# EAGLE library part 12401610E4#2A (library power_module)
Usb Type-c, Ra Rcpt, Pcb Mount,
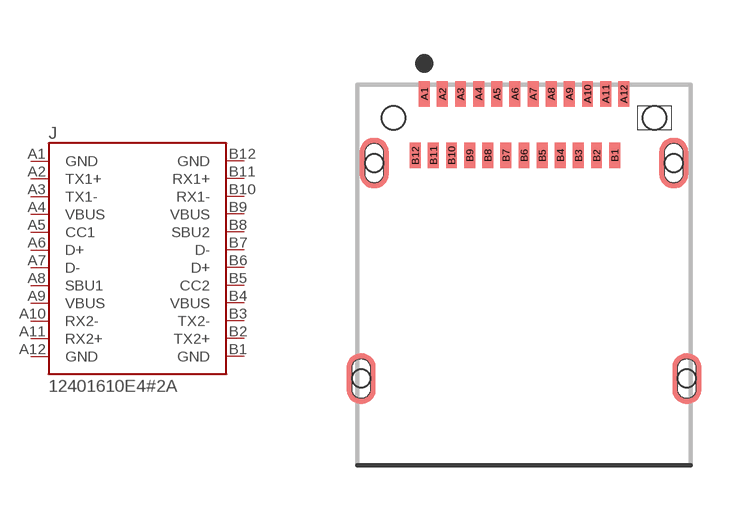
[diagram p1: symbol with the pads of AMPHENOL_12401610E4#2A; footprint AMPHENOL_12401610E4#2A]

Designator prefix J

## 12401610E4#2A (DESCRIPTION: USB TYPE-C, RA RCPT, PCB MOUNT,; DIGI-KEY_PART_NUMBER: 12401610E4#2ACT-ND; DIGI-KEY_PURCHASE_URL: https://www.digikey.com/product-detail/en/amphenol-commercial-products/12401610E4-2A/12401610E4-2ACT-ND/5775520?WT.z_cid=ref_snapeda&utm_source=snapeda&utm_medium=aggregator&utm_campaign=buynow; MF: Amphenol; MP: 12401610E4#2A; PACKAGE: None)  [AMPHENOL_12401610E4#2A]
A1  GND  pas
A2  TX1+  pas
A3  TX1-  pas
A4  VBUS  pas
A5  CC1  pas
A6  D+  pas
A7  D-  pas
A8  SBU1  pas
A9  VBUS  pas
A10  RX2-  pas
A11  RX2+  pas
A12  GND  pas
B1  GND  pas
B2  TX2+  pas
B3  TX2-  pas
B4  VBUS  pas
B5  CC2  pas
B6  D+  pas
B7  D-  pas
B8  SBU2  pas
B9  VBUS  pas
B10  RX1-  pas
B11  RX1+  pas
B12  GND  pas

## Footprint AMPHENOL_12401610E4#2A (pad centres in mm)
smd 0.3 x 0.7: A1 -2.75,0.66; A2 -2.25,0.66; A3 -1.75,0.66; A4 -1.25,0.66; A5 -0.75,0.66; A6 -0.25,0.66; A7 0.25,0.66; A8 0.75,0.66; A9 1.25,0.66; A10 1.75,0.66; A11 2.25,0.66; A12 2.75,0.66; B1 2.5,-1.04; B2 2,-1.04; B3 1.5,-1.04; B4 1,-1.04; B5 0.5,-1.04; B6 0,-1.04; B7 -0.5,-1.04; B8 -1,-1.04; B9 -1.5,-1.04; B10 -2,-1.04; B11 -2.5,-1.04; B12 -3,-1.04
hole 0.65 at -3.6,0
hole 0.65 at 3.6,0
hole 0.5 at -4.13,-1.25
hole 0.5 at 4.13,-1.25
hole 0.5 at -4.49,-7.2
hole 0.5 at 4.49,-7.2